# EAGLE library part MX4X4 (library Orlando)
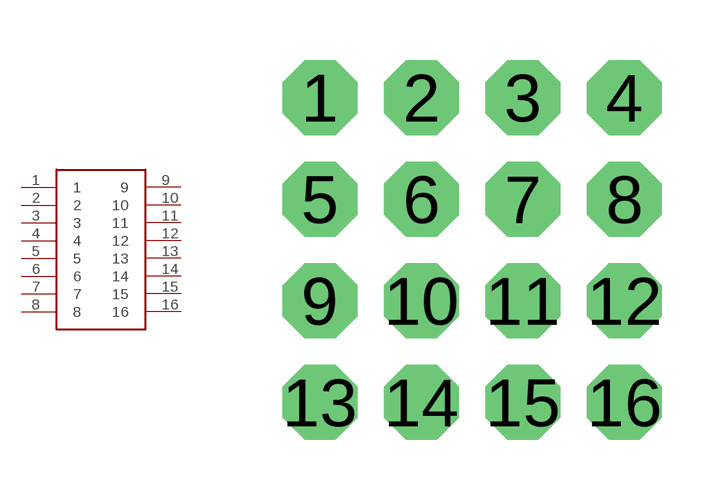
[diagram p20: symbol with the pads of M04X4; footprint M04X4]

Designator prefix -

## MX4X4  [M04X4]
1  1
2  2
3  3
4  4
5  5
6  6
7  7
8  8
9  9
10  10
11  11
12  12
13  13
14  14
15  15
16  16

## Footprint M04X4 (pad centres in mm)
drill 1.016 pad 1.88 octagon: 1 -2.54,5.08; 2 0,5.08; 3 2.54,5.08; 4 5.08,5.08; 5 -2.54,2.54; 6 0,2.54; 7 2.54,2.54; 8 5.08,2.54; 9 -2.54,0; 10 0,0; 11 2.54,0; 12 5.08,0; 13 -2.54,-2.54; 14 0,-2.54; 15 2.54,-2.54; 16 5.08,-2.54